# Altium schematic symbol library Op-Amp LTC2053.SchLib: 1 symbol
Pins are listed as number, name and electrical type; pins without a type are passive.

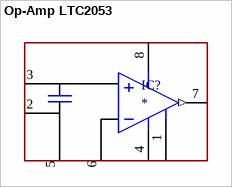
[diagram p0: symbol Op-Amp LTC2053]

## Op-Amp LTC2053
designator IC?
pins: 1, 2 -IN, 3 +IN, 4 V- (power), 5 REF, 6 RG, 7 OUT (out), 8 V+ (power)